# Altium schematic symbol library Schlib1.SchLib: 2 symbols
Pins are listed as number, name and electrical type; pins without a type are passive.

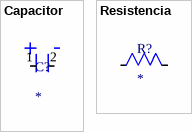
[diagram p0: symbols Capacitor to Resistencia]

## Capacitor
designator C?
footprint 0805
pins: 1, 2

## Resistencia
designator R?
pins: 0, 1